# Altium footprint library UDFN-16(3.3X1.4).PcbLib: 1 footprints
Each footprint in its own frame and in the unit in brackets; x right, y up, seen from the top. Pads: shape width x height; smd on the part's side, far side on the other; paste and mask are expansions set on the pad; w line width, h text height; cw(c..) or ccw(c..) is an arc to the next point about the centre after c.
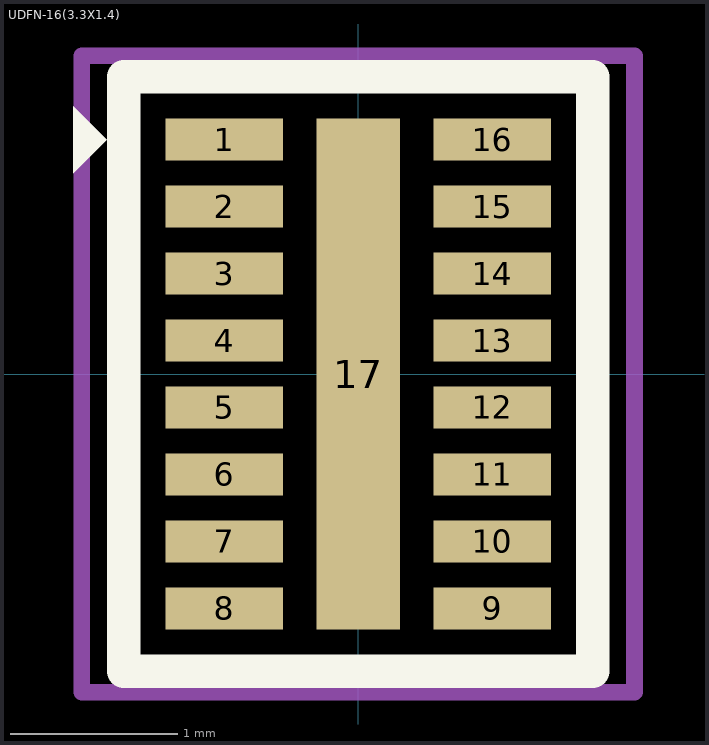
[diagram p0: the footprint, top view; thin cyan lines are the x and y axes]

## UDFN-16(3.3X1.4) [mm]
height 0.55
pads (17):
  rect 0.7x0.25 smd: 1(-0.8,1.4) 2(-0.8,1) 3(-0.8,0.6) 4(-0.8,0.2) 5(-0.8,-0.2) 6(-0.8,-0.6) 7(-0.8,-1) 8(-0.8,-1.4) 9(0.8,-1.4) 10(0.8,-1) 11(0.8,-0.6) 12(0.8,-0.2) 13(0.8,0.2) 14(0.8,0.6) 15(0.8,1) 16(0.8,1.4)
  rect 0.5x3.05 smd: 17(0,0)
Top Overlay:
  region: -1.7,1.2 -1.7,1.6 -1.5,1.4
  lines w0.2: -1.4,-1.775 -1.4,1.775 1.4,1.775 1.4,-1.775 -1.4,-1.775
Top Courtyard:
  lines w0.1: -1.65,-1.9 -1.65,1.9 1.65,1.9 1.65,-1.9 -1.65,-1.9
3D body "CM1624-08DE.STEP": height 0.55, standoff 0, extent -0.675,-1.65 0.675,1.65